# EAGLE library part LT3477 (library PowerProducts)
LT-Spice library generated with : ltspice.ulp from: E:/Programme/LTC/LTspiceIV/lib/sym/PowerProducts/LT3478*.asy at 05.10.2012 11:17:05
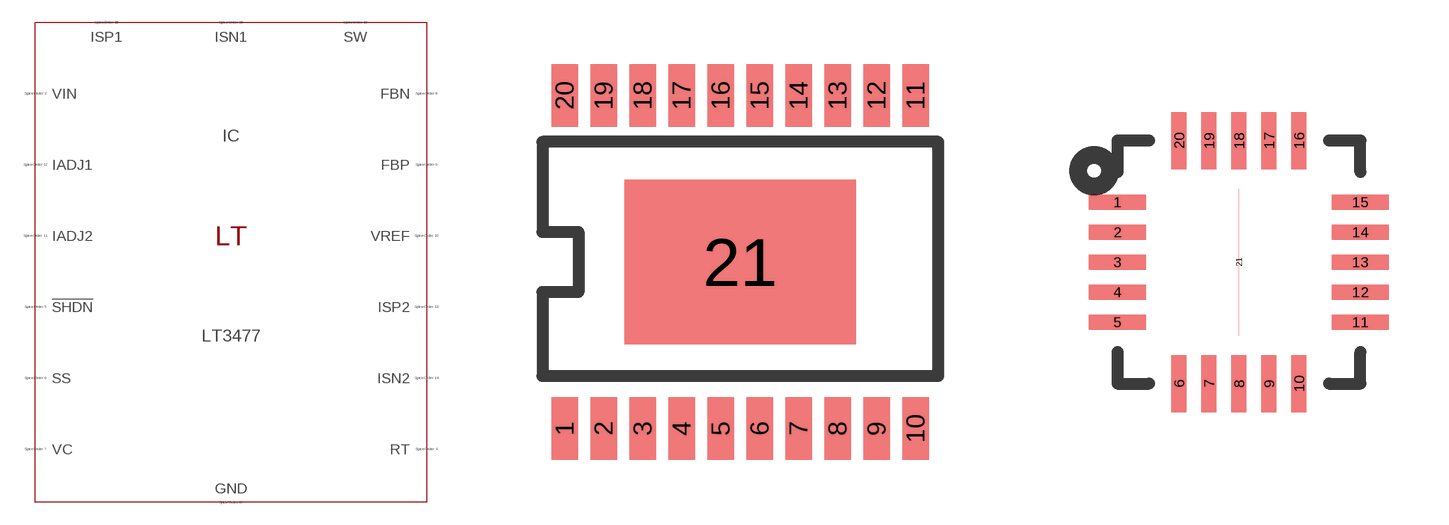
[diagram p42: symbol with the pads of TSSOP20CB(FE); footprints TSSOP20CB(FE), QFN20(UF)]

Designator prefix IC

## LT3477FE (SPICEMODEL: LT1762.lib; SPICEPREFIX: X; VALUE2: LT1762)  [TSSOP20CB(FE)]
1  VIN  pas
2  RT  pas
3  !SHDN  pas
4  SS  pas
5  VC  pas
6  FBN  pas
7  FBP  pas
8  VREF  pas
9  IADJ2  pas
10  IADJ1  pas
11  ISP2  pas
12  ISN2  pas
13  ISP1  pas
14  ISN1  pas
15  GND  pas
16  SW  pas
17  SW  pas
21  GND  pas

## LT3477 (SPICEMODEL: LT1762.lib; SPICEPREFIX: X; VALUE2: LT1762)  [QFN20(UF)]
3  VIN  pas
4  RT  pas
5  !SHDN  pas
6  SS  pas
7  VC  pas
8  FBN  pas
9  FBP  pas
10  VREF  pas
11  IADJ2  pas
12  IADJ1  pas
13  ISP2  pas
14  ISN2  pas
15  ISP1  pas
16  ISN1  pas
17  GND  pas
18  SW  pas
19  SW  pas
21  GND  pas

## Footprint TSSOP20CB(FE) (pad centres in mm)
Package generated from: TSSOP20CB(FE).asc (!PADS-POWERPCB-V5.0-BASIC! DESIGN DATABASE ASCII FILE 1.0) with :import-pads-powerpcb-v5.ulp Version 1.0.1 at 04.10.2012 14:11:40
smd 0.66 x 1.575: 1 -4.388,-4.162; 2 -3.413,-4.162; 3 -2.438,-4.162; 4 -1.462,-4.162; 5 -0.487,-4.162; 6 0.487,-4.162; 7 1.462,-4.162; 8 2.438,-4.162; 9 3.413,-4.162; 10 4.388,-4.162; 11 4.388,4.162; 12 3.413,4.162; 13 2.438,4.162; 14 1.462,4.162; 15 0.487,4.162; 16 -0.487,4.162; 17 -1.462,4.162; 18 -2.438,4.162; 19 -3.413,4.162; 20 -4.388,4.162
smd 5.79 x 4.11: 21 0,0

## Footprint QFN20(UF) (pad centres in mm)
Package generated from: QFN20(UF).asc (!PADS-POWERPCB-V9.3-BASIC! DESIGN DATABASE ASCII FILE 1.0) with :import-pads-powerpcb-v5.ulp Version 1.0.1 at 04.10.2012 14:11:23
smd 1.425 x 0.375: 1 -3.038,1.5; 2 -3.038,0.75; 3 -3.038,0; 4 -3.038,-0.75; 5 -3.038,-1.5; 11 3.038,-1.5; 12 3.038,-0.75; 13 3.038,0; 14 3.038,0.75; 15 3.038,1.5
smd 0.375 x 1.425: 6 -1.5,-3.038; 7 -0.75,-3.038; 8 0,-3.038; 9 0.75,-3.038; 10 1.5,-3.038; 16 1.5,3.038; 17 0.75,3.038; 18 0,3.038; 19 -0.75,3.038; 20 -1.5,3.038
smd 0 x 3.675: 21 0,0